# Altium schematic symbol library SI5328B-C-GM.SchLib: 1 symbol
Pins are listed as number, name and electrical type; pins without a type are passive.

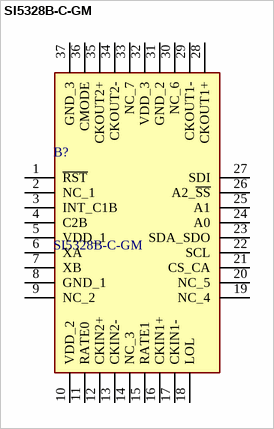
[diagram p0: symbol SI5328B-C-GM]

## SI5328B-C-GM
designator B?
Ethernet IC 808MHz 1 Output 36-QFN (6x6); Manufacturer_Name: Skyworks; Geometry.Height: 0.9mm; Mouser Part Number: 634-SI5328B-C-GM; Mouser Price/Stock: https://www.mouser.co.uk/ProductDetail/Skyworks-Solutions-Inc/SI5328B-C-GM?qs=p9T7GgSe1IHZicC1Pa%252BoRQ%3D%3D; Manufacturer_Part_Number: SI5328B-C-GM; Datasheet Link: https://www.skyworksinc.com/-/media/Skyworks/SL/documents/public/data-sheets/Si5328.pdf
footprint QFN50P600X600X90-37N-D
pins: 1 ~{RST}, 2 NC_1, 3 INT_C1B, 4 C2B, 5 VDD_1, 6 XA, 7 XB, 8 GND_1, 9 NC_2, 10 VDD_2, 11 RATE0, 12 CKIN2+, 13 CKIN2-, 14 NC_3, 15 RATE1, 16 CKIN1+, 17 CKIN1-, 18 LOL, 19 NC_4, 20 NC_5, 21 CS_CA, 22 SCL, 23 SDA_SDO, 24 A0, 25 A1, 26 A2_~{SS}, 27 SDI, 28 CKOUT1+, 29 CKOUT1-, 30 NC_6, 31 GND_2, 32 VDD_3, 33 NC_7, 34 CKOUT2-, 35 CKOUT2+, 36 CMODE, 37 GND_3